# EAGLE library part SIMHOLDER-8PIN (library Connectors)
8 (6 + 2) Position Card Connector SIM Card Surface Mount, Right Angle Gold
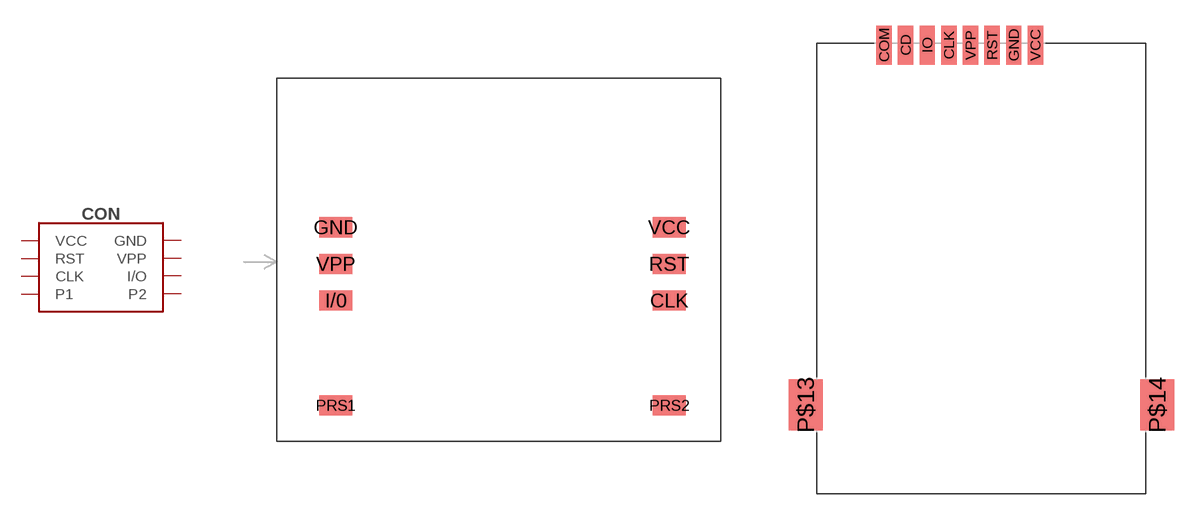
[diagram p16: symbol with the pads of MOLEX91228; footprints MOLEX91228, 115A-ADA0-R02]

Designator prefix CON

## SIMHOLDER-8PIN-MOLEX91228 (DIGIKEY#: WM24086TR-ND; MANF: Molex LLC; MANF#: 0912283001)  [MOLEX91228]
CLK  CLK
GND  GND
I/0  I/O
PRS1  P1
PRS2  P2
RST  RST
VCC  VCC
VPP  VPP

## SIMHOLDER-8PIN-115A-ADA0-R02  [115A-ADA0-R02]
CD  P1
CLK  CLK
COM  P2
GND  GND
IO  I/O
P$13  GND
P$14  GND
RST  RST
VCC  VCC
VPP  VPP

## Footprint MOLEX91228 (pad centres in mm)
Datasheet <https://www.molex.com/pdm_docs/sd/912283001_sd.pdf>
smd 2.3 x 1.4: CLK 11.85,-2.85; GND -11.35,2.25; I/0 -11.35,-2.85; PRS1 -11.35,-10.15; PRS2 11.85,-10.15; RST 11.85,-0.3; VCC 11.85,2.25; VPP -11.35,-0.3

## Footprint 115A-ADA0-R02 (pad centres in mm)
http://files.rct.ru/pdf/connectors/115a-ada0-r02.pdf http://www.attend.com.tw/product_view.php?id=63
smd 0.9 x 2.3: CD -4.445,13.15; CLK -1.905,13.15; COM -5.715,13.15; GND 1.905,13.15; IO -3.175,13.15; RST 0.635,13.15; VCC 3.175,13.15; VPP -0.635,13.15
smd 2 x 3: P$13 -10.325,-8; P$14 10.325,-8